# Altium schematic symbol library slide_switch.SchLib: 1 symbol
Pins are listed as number, name and electrical type; pins without a type are passive.

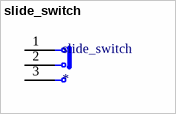
[diagram p0: symbol slide_switch]

## slide_switch
designator slide_switch
Slide Switch SPDT Through Hole; MP: 1825159-1; Contact_Current_Rating: .25 A; MF: TE Connectivity; Configuration_Pole-Throw: Single Pole - Double Throw; SnapEDA_Link: https://www.snapeda.com/parts/1825159-1/TE%20Connectivity%20ALCOSWITCH%20Switches/view-part/235580/?ref=snap; Switch_Type: Slide; Package: None; Price: None; EU_RoHS_Compliance: Compliant; Value: *; Availability: Unavailable; TE_purchase_URL: https://www.te.com/usa-en/product-1825159-1.html?te_bu=Cor&te_type=disp&te_campaign=seda_glo_cor-seda-global-disp-prtnr-fy19-seda-model-bom-cta_sma-317_1&elqCampaignId=32493
footprint slide_switch
pins: 1, 2, 3